# Altium footprint library vitech_modules.PcbLib: 2 footprints
Each footprint in its own frame and in the unit in brackets; x right, y up, seen from the top. Pads: shape width x height; smd on the part's side, far side on the other; paste and mask are expansions set on the pad; w line width, h text height; cw(c..) or ccw(c..) is an arc to the next point about the centre after c.
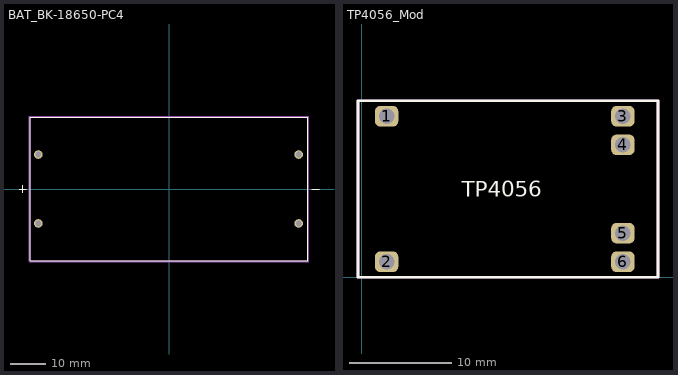
[diagram p0: the footprints below, top view; thin cyan lines are the x and y axes]

## BAT_BK-18650-PC4 [mm]
pads (4):
  round 2.4 hole 1.6: 1+(-36.6,9.65) 1-(36.3,9.65) 2+(-36.6,-9.65) 2-(36.3,-9.65)
Top Overlay:
  lines w0.127: -42,0 -40,0 ; -41,-1 -41,1 ; 40,0 42,0 ; -38.85,-20.105 -38.85,20.105 38.85,20.105 38.85,-20.105 -38.85,-20.105
Top Assembly:
  text ".Designator" at -1.982,21.857 h0.5
Mechanical 13:
  lines w0.127: -42,0 -40,0 ; -41,-1 -41,1 ; 40,0 42,0 ; -38.85,-20.105 -38.85,20.105 38.85,20.105 38.85,-20.105 -38.85,-20.105
Mechanical 15:
  lines w0.05: -39.1,-20.355 -39.1,20.355 39.1,20.355 39.1,-20.355 -39.1,-20.355
Mechanical 19:
  text ".Comment" at -1.951,22.695 h0.5
3D body "BK-18650-PC4--3DModel-STEP-56544.STEP": height 22.5, standoff -2.24, extent -38.862,-20.144 38.838,20.066

## TP4056_Mod [mil]
pads (6):
  rrect50% 90x78.74 hole 60: 1(95,620) 2(95,60) 3(1005,620) 4(1005,510) 5(1005,170) 6(1005,60)
Top Overlay:
  lines w10: -15,0 1140,0 1140,680 -15,680 -15,0
  text "TP4056" at 385,310 h60
Assembly:
  lines w10: -15,0 1140,0 1140,680 -15,680 -15,0
Mechanical 17:
  text ".Designator" at 486.85,730.15 h19.68
Mechanical 19:
  text ".Comment" at 486.85,704.56 h19.68
3D body "TP4056_Charging_Module_Type_C.step": height 174.99, standoff 12, extent -13.54,-2.52 1140,682.52